# EAGLE library part VOLTAGE_LEVEL_TRANSLATOR (library pie)
Dual Bidirectional level translator for l2C bus AND SMBus. http://www.ti.com/lit/ds/symlink/pca9306-q1.pdf For buffering the I2C signals on the Watson, and hopefully to avoid killing so many pandas this season!
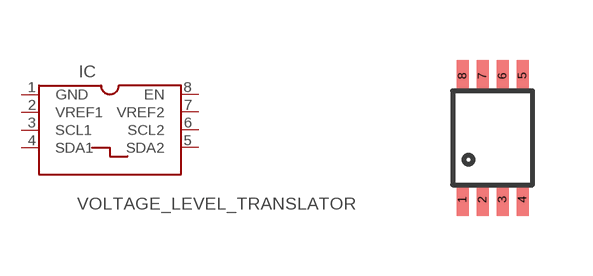
[diagram p9: symbol with the pads of DCU_R-PDSO-G8; footprint DCU_R-PDSO-G8]

Designator prefix IC

## VOLTAGE_LEVEL_TRANSLATORSMD (PIE_TEXASINST-PN: PCA9306)  [DCU_R-PDSO-G8]
1  GND  pas
2  VREF1  pas
3  SCL1  pas
4  SDA1  pas
5  SDA2  pas
6  SCL2  pas
7  VREF2  pas
8  EN  pas

## Footprint DCU_R-PDSO-G8 (pad centres in mm)
DCU (R-PDSO-G8) PLASTIC SMALL-OUTLINE PACKAGE (DIE DOWN) currently used for Voltage level shifter (http://www.ti.com/lit/gpn/pca9306-q1) for Watson
smd 0.3 x 0.8: 1 -0.75,-1.5; 2 -0.25,-1.5; 3 0.25,-1.5; 4 0.75,-1.5; 5 0.75,1.6; 6 0.25,1.6; 7 -0.25,1.6; 8 -0.75,1.6